# Altium footprint library FootprintLib.PcbLib: 194 footprints (part 6 of 13)
Each footprint in its own frame and in the unit in brackets; x right, y up, seen from the top. Pads: shape width x height; smd on the part's side, far side on the other; paste and mask are expansions set on the pad; w line width, h text height; cw(c..) or ccw(c..) is an arc to the next point about the centre after c.
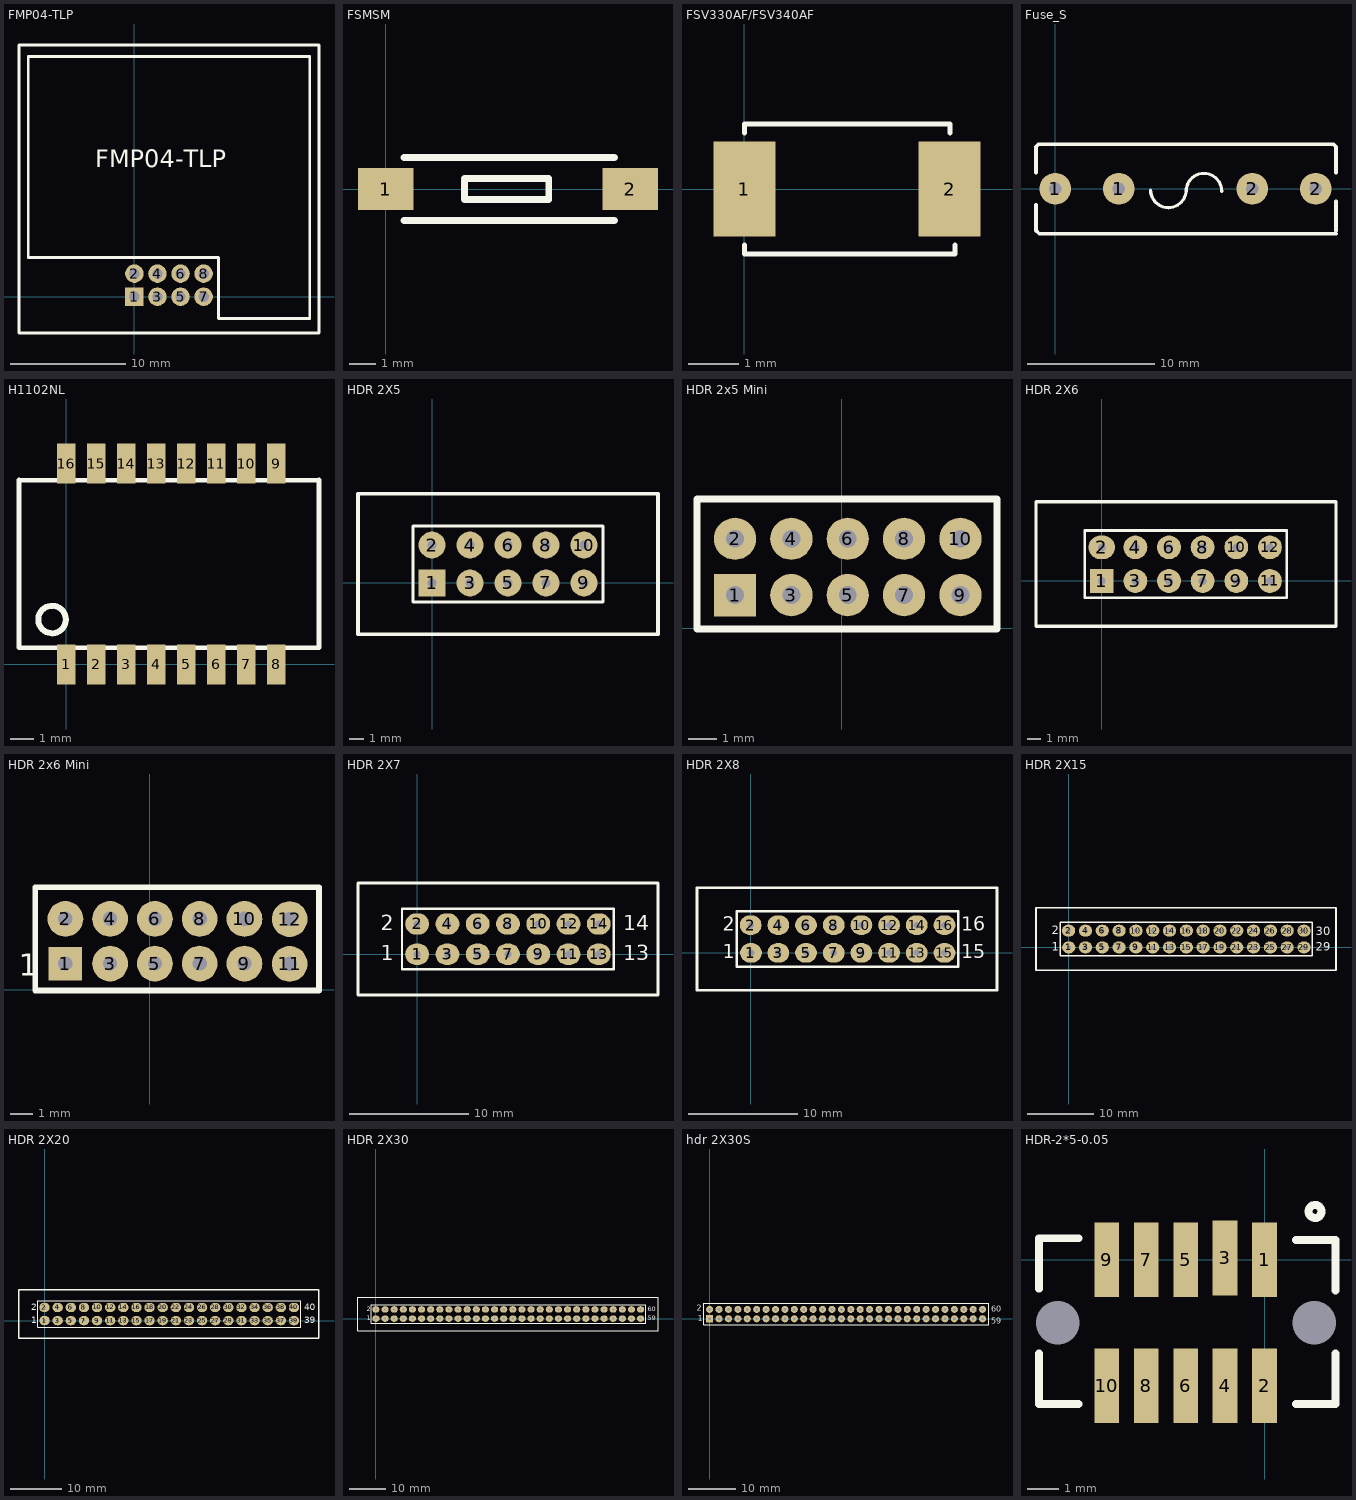
[diagram p5: the footprints below, top view; thin cyan lines are the x and y axes]

## FMP04-TLP [mm]
pads (8):
  rect 1.6x1.6 hole 0.9: 1(0,0)
  round 1.6 hole 0.9: 2(0,2) 3(2,0) 4(2,2) 5(4,0) 6(4,2) 7(6,0) 8(6,2)
Top Overlay:
  lines w0.254: -10,-3.13 16,-3.13 16,21.8 -10,21.8 -10,-3.13 ; -9.2,3.4 7.3,3.4 7.3,-1.9 15.2,-1.9 15.2,20.83 -9.2,20.83 -9.2,3.4
  text "FMP04-TLP" at -3.4,11.2 h1.52

## FSMSM [mm]
height 4.3
pads (2):
  rect 2.1x1.6 smd: 1(0,0) 2(9.3,0)
Top Overlay:
  lines w0.254: 0.7,-1.2 8.7,-1.2 ; 0.7,1.2 8.7,1.2 ; 3,0.4 6.2,0.4 6.2,-0.4 ; 3.1,0.4 3,0.3 3,-0.4 ; 3,-0.4 6.1,-0.4 3,-0.4

## FSV330AF/FSV340AF [mm]
pads (2):
  rect 1.24x1.89 smd: 1(0,0) 2(4.08,0)
Top Overlay:
  lines w0.1: 0,-1.118 0,-1.295 4.191,-1.295 4.191,-1.118 ; 0,1.118 0,1.295 4.089,1.295 4.089,1.118

## Fuse_S [mm]
pads (4):
  round 2.5 hole 1: 1(0,0) 1(5,0) 2(15.5,0) 2(20.5,0)
Top Overlay:
  lines w0.254: 7.5,-0.1 ccw(c8.9,-0.1) 10.3,-0.1 ; 10.3,-0.2 cw(c11.7,-0.2) 13.1,-0.2
  lines w0.3: -1.524,-1.27 -1.524,-3.302 -1.27,-3.556 22.098,-3.556 ; -1.524,1.27 -1.524,3.302 -1.328,3.498 21.902,3.498 22.098,3.302 22.098,1.27 ; 22.098,-3.302 22.098,-1.016

## H1102NL [mm]
height 6
pads (16):
  rect 0.8x1.7 smd: 1(0,0) 2(1.27,0) 3(2.54,0) 4(3.81,0) 5(5.08,0) 6(6.35,0) 7(7.62,0) 8(8.89,0) 9(8.89,8.5) 10(7.62,8.5) 11(6.35,8.5) 12(5.08,8.5) 13(3.81,8.5) 14(2.54,8.5) 15(1.27,8.5) 16(0,8.5)
Top Overlay:
  circle w0.254: c-0.6,1.9 r0.583
  lines w0.2: -2,7.8 10.7,7.8 ; -2,7.81 -2,0.7 10.7,0.7 10.7,7.81

## HDR 2X5 [mm] "Connector; Header; 5x2 Position"
pads (10):
  rect 1.8x1.8 hole 0.6: 1(0,0)
  round 1.8 hole 0.6: 2(0,2.54) 3(2.54,0) 4(2.54,2.54) 5(5.08,0) 6(5.08,2.54) 7(7.62,0) 8(7.62,2.54) 9(10.16,0) 10(10.16,2.54)
Top Overlay:
  lines w0.2: -1.27,-1.27 -1.27,3.81 11.43,3.81 11.43,-1.27 -1.27,-1.27
  lines w0.254: -4.953,-3.43 -4.953,5.969 15.113,5.969 15.113,-3.43 -4.953,-3.43
  text "." at -2.3,-1.2 h1.27

## HDR 2x5 Mini [mm]
pads (10):
  rect 1.5x1.5 hole 0.635: 1(-3.78,1.17)
  round 1.5 hole 0.635: 2(-3.78,3.17) 3(-1.78,1.17) 4(-1.78,3.17) 5(0.22,1.17) 6(0.22,3.17) 7(2.22,1.17) 8(2.22,3.17) 9(4.22,1.17) 10(4.22,3.17)
Top Overlay:
  lines w0.254: -5.13,-0.03 5.52,-0.03 5.52,4.58 -5.13,4.58 -5.13,-0.03

## HDR 2X6 [mm] "Connector; Header; 6x2 Position"
pads (12):
  rect 1.8x1.8 hole 0.6: 1(0,0)
  oval 2x1.8 hole 0.6: 2(0,2.54)
  round 1.8 hole 0.6: 3(2.54,0) 4(2.54,2.54) 5(5.08,0) 6(5.08,2.54) 7(7.62,0) 8(7.62,2.54) 9(10.16,0) 10(10.16,2.54) 11(12.7,0) 12(12.7,2.54)
Top Overlay:
  lines w0.2: -1.27,-1.27 -1.27,3.81 13.97,3.81 13.97,-1.27 -1.27,-1.27
  lines w0.254: -4.963,-3.42 17.69,-3.42 17.69,5.979 -4.963,5.979 -4.963,-3.42
  text "." at -2.4,-0.5 h1.27

## HDR 2x6 Mini [mm]
pads (12):
  rect 1.5x1.5 hole 0.635: 1(-3.78,1.17)
  round 1.6 hole 0.635: 2(-3.78,3.17) 3(-1.78,1.17) 4(-1.78,3.17) 5(0.22,1.17) 6(0.22,3.17) 7(2.22,1.17) 8(2.22,3.17) 9(4.22,1.17) 10(4.22,3.17) 11(6.24,1.16) 12(6.24,3.16)
Top Overlay:
  lines w0.254: 7.54,-0.04 7.54,4.57 ; -5.13,-0.03 -5.13,4.58 7.55,4.58 7.55,-0.03 -5.13,-0.03
  text "1" at -5.85,0.62 h1

## HDR 2X7 [mm] "Connector; Header; 7x2 Position"
pads (14):
  oval 2x1.8 hole 0.6: 1(0,0) 2(0,2.54) 3(2.54,0) 4(2.54,2.54) 5(5.08,0) 6(5.08,2.54) 7(7.62,0) 8(7.62,2.54) 9(10.16,0) 10(10.16,2.54) 11(12.7,0) 12(12.7,2.54) 13(15.24,0) 14(15.24,2.54)
Top Overlay:
  lines w0.2: -1.27,-1.27 16.51,-1.27 16.51,3.81 -1.27,3.81 -1.27,-1.27
  lines w0.254: -4.963,-3.42 -4.963,5.979 20.208,5.979 20.208,-3.42 -4.963,-3.42
  text "13" at 17.272,-0.508 h1.27
  text "14" at 17.272,2.032 h1.27
  text "1" at -3.048,-0.508 h1.27
  text "2" at -3.048,2.032 h1.27

## HDR 2X8 [mm] "Connector; Header; 8x2 Position"
pads (16):
  oval 2x1.8 hole 0.6: 1(0.03,0) 2(0,2.54) 3(2.54,0) 4(2.54,2.54) 5(5.08,0) 6(5.08,2.54) 7(7.62,0) 8(7.62,2.54) 9(10.16,0) 10(10.16,2.54) 11(12.7,0) 12(12.7,2.54) 13(15.24,0) 14(15.24,2.54) 15(17.78,0) 16(17.78,2.54)
Top Overlay:
  lines w0.2: -1.27,-1.27 19.05,-1.27 19.05,3.81 -1.27,3.81 -1.27,-1.27
  lines w0.254: -4.923,-3.43 22.6,-3.43 22.6,5.969 -4.923,5.969 -4.923,-3.43
  text "16" at 19.304,2.032 h1.27
  text "15" at 19.304,-0.508 h1.27
  text "1" at -2.54,-0.508 h1.27
  text "2" at -2.54,2.032 h1.27

## HDR 2X15 [mm] "Connector; Header; 20x2 Position"
pads (30):
  oval 2x1.8 hole 0.6: 1(0.01,0.01) 2(-0.02,2.55) 3(2.54,0) 4(2.54,2.54) 5(5.08,0) 6(5.08,2.54) 7(7.62,0) 8(7.62,2.54) 9(10.16,0) 10(10.16,2.54) 11(12.7,0) 12(12.7,2.54) 13(15.24,0) 14(15.24,2.54) 15(17.78,0) 16(17.78,2.54) 17(20.32,0) 18(20.32,2.54) 19(22.86,0) 20(22.86,2.54) 21(25.4,0) 22(25.4,2.54) 23(27.94,0) 24(27.94,2.54) 25(30.48,0) 26(30.48,2.54) 27(33.02,0) 28(33.02,2.54) 29(35.56,0) 30(35.56,2.54)
Top Overlay:
  lines w0.2: -1.27,-1.27 36.81,-1.27 36.81,3.81 -1.27,3.81 -1.27,-1.27
  lines w0.254: -4.943,-3.42 -4.943,5.979 40.4,5.979 40.4,-3.42 -4.943,-3.42
  text "1" at -2.54,-0.508 h1.27
  text "2" at -2.54,2.032 h1.27
  text "30" at 37.35,1.88 h1.27
  text "29" at 37.32,-0.49 h1.27

## HDR 2X20 [mm] "Connector; Header; 20x2 Position"
pads (40):
  oval 2x1.8 hole 0.6: 1(0.01,0.01) 2(-0.02,2.55) 3(2.54,0) 4(2.54,2.54) 5(5.08,0) 6(5.08,2.54) 7(7.62,0) 8(7.62,2.54) 9(10.16,0) 10(10.16,2.54) 11(12.7,0) 12(12.7,2.54) 13(15.24,0) 14(15.24,2.54) 15(17.78,0) 16(17.78,2.54) 17(20.32,0) 18(20.32,2.54) 19(22.86,0) 20(22.86,2.54) 21(25.4,0) 22(25.4,2.54) 23(27.94,0) 24(27.94,2.54) 25(30.48,0) 26(30.48,2.54) 27(33.02,0) 28(33.02,2.54) 29(35.56,0) 30(35.56,2.54) 31(38.1,0) 32(38.1,2.54) 33(40.64,0) 34(40.64,2.54) 35(43.18,0) 36(43.18,2.54) 37(45.72,0) 38(45.72,2.54) 39(48.26,0) 40(48.26,2.54)
Top Overlay:
  lines w0.2: -1.27,-1.27 -1.27,3.81 49.53,3.81 49.53,-1.27 -1.27,-1.27
  lines w0.254: -4.943,-3.42 53.1,-3.42 53.1,5.979 -4.943,5.979 -4.943,-3.42
  text "39" at 50.292,-0.508 h1.27
  text "40" at 50.292,2.032 h1.27
  text "2" at -2.54,2.032 h1.27
  text "1" at -2.54,-0.508 h1.27

## HDR 2X30 [mm] "Connector; Header; 30x2 Position"
pads (60):
  oval 2x1.8 hole 0.6: 1(0,0) 2(-0.02,2.54) 3(2.54,0) 4(2.54,2.54) 5(5.08,0) 6(5.08,2.54) 7(7.62,0) 8(7.62,2.54) 9(10.16,0) 10(10.16,2.54) 11(12.7,0) 12(12.7,2.54) 13(15.24,0) 14(15.24,2.54) 15(17.78,0) 16(17.78,2.54) 17(20.32,0) 18(20.32,2.54) 19(22.86,0) 20(22.86,2.54) 21(25.4,0) 22(25.4,2.54) 23(27.94,0) 24(27.94,2.54) 25(30.48,0) 26(30.48,2.54) 27(33.02,0) 28(33.02,2.54) 29(35.56,0) 30(35.56,2.54) 31(38.1,0) 32(38.1,2.54) 33(40.64,0) 34(40.64,2.54) 35(43.18,0) 36(43.18,2.54) 37(45.72,0) 38(45.72,2.54) 39(48.26,0) 40(48.26,2.54) 41(50.8,0) 42(50.8,2.54) 43(53.34,0) 44(53.34,2.54) 45(55.88,0) 46(55.88,2.54) 47(58.42,0) 48(58.42,2.54) 49(60.96,0) 50(60.96,2.54) 51(63.5,0) 52(63.5,2.54) 53(66.04,0) 54(66.04,2.54) 55(68.58,0) 56(68.58,2.54) 57(71.12,0) 58(71.12,2.54) 59(73.66,0) 60(73.66,2.54)
Top Overlay:
  lines w0.2: -1.27,-1.27 -1.27,3.81 75.06,3.81 75.06,-1.27 -1.27,-1.27
  lines w0.254: -4.983,-3.42 -4.983,5.979 78.5,5.979 78.5,-3.42 -4.983,-3.42
  text "2" at -2.54,2.032 h1.27
  text "1" at -2.54,-0.508 h1.27
  text "59" at 75.692,-0.508 h1.27
  text "60" at 75.692,2.032 h1.27

## hdr 2X30S [mm]
height 8
pads (60):
  rect 1.5x1.5 hole 0.6: 1(-0.02,0)
  round 1.5 hole 0.6: 2(-0.02,2) 3(1.981,0) 4(1.981,2) 5(3.981,0) 6(3.981,2) 7(5.982,0) 8(5.982,2) 9(7.983,0) 10(7.983,2) 11(9.983,0) 12(9.983,2) 13(11.984,0) 14(11.984,2) 15(13.985,0) 16(13.985,2) 17(15.986,0) 18(15.986,2) 19(17.986,0) 20(17.986,2) 21(19.987,0) 22(19.987,2) 23(21.988,0) 24(21.988,2) 25(23.988,0) 26(23.988,2) 27(25.989,0) 28(25.989,2) 29(27.99,0) 30(27.99,2) 31(29.99,0) 32(29.99,2) 33(31.991,0) 34(31.991,2) 35(33.992,0) 36(33.992,2) 37(35.992,0) 38(35.992,2) 39(37.993,0) 40(37.993,2) 41(39.994,0) 42(39.994,2) 43(41.994,0) 44(41.994,2) 45(43.995,0) 46(43.995,2) 47(45.996,0) 48(45.996,2) 49(47.997,0) 50(47.997,2) 51(49.997,0) 52(49.997,2) 53(51.998,0) 54(51.998,2) 55(53.999,0) 56(53.999,2) 57(55.999,0) 58(55.999,2) 59(58,0) 60(58,2)
Top Overlay:
  lines w0.2: -1.27,-1.27 59.3,-1.27 59.3,3.3 -1.27,3.3 -1.27,-1.27
  text "60" at 59.792,1.532 h1.27
  text "59" at 59.792,-1.008 h1.27
  text "1" at -2.54,-0.508 h1.27
  text "2" at -2.7,1.7 h1.27

## HDR-2*5-0.05 [mm]
pads (12):
  rect 0x0 hole 1.4: 0(-6.66,-2.032) 0(1.6,-2.032)
  rect 0.8x2.4 smd: 1(0,0) 2(0,-4.064) 3(-1.27,0.051) 4(-1.27,-4.064) 5(-2.54,0) 6(-2.54,-4.064) 7(-3.81,0) 8(-3.81,-4.064) 9(-5.08,0) 10(-5.08,-4.064)
Top Overlay:
  circle w0.254: c1.626,1.549 r0.209
  lines w0.254: -7.264,-3.023 -7.264,-4.648 -5.994,-4.648 ; -7.264,-0.94 -7.264,0.686 -5.994,0.686 ; 1.016,-4.648 2.286,-4.648 2.286,-3.023 ; 1.016,0.635 2.286,0.635 2.286,-0.991